# Altium footprint library gravpower.PcbLib: 27 footprints (part 1 of 2)
Each footprint in its own frame and in the unit in brackets; x right, y up, seen from the top. Pads: shape width x height; smd on the part's side, far side on the other; paste and mask are expansions set on the pad; w line width, h text height; cw(c..) or ccw(c..) is an arc to the next point about the centre after c.
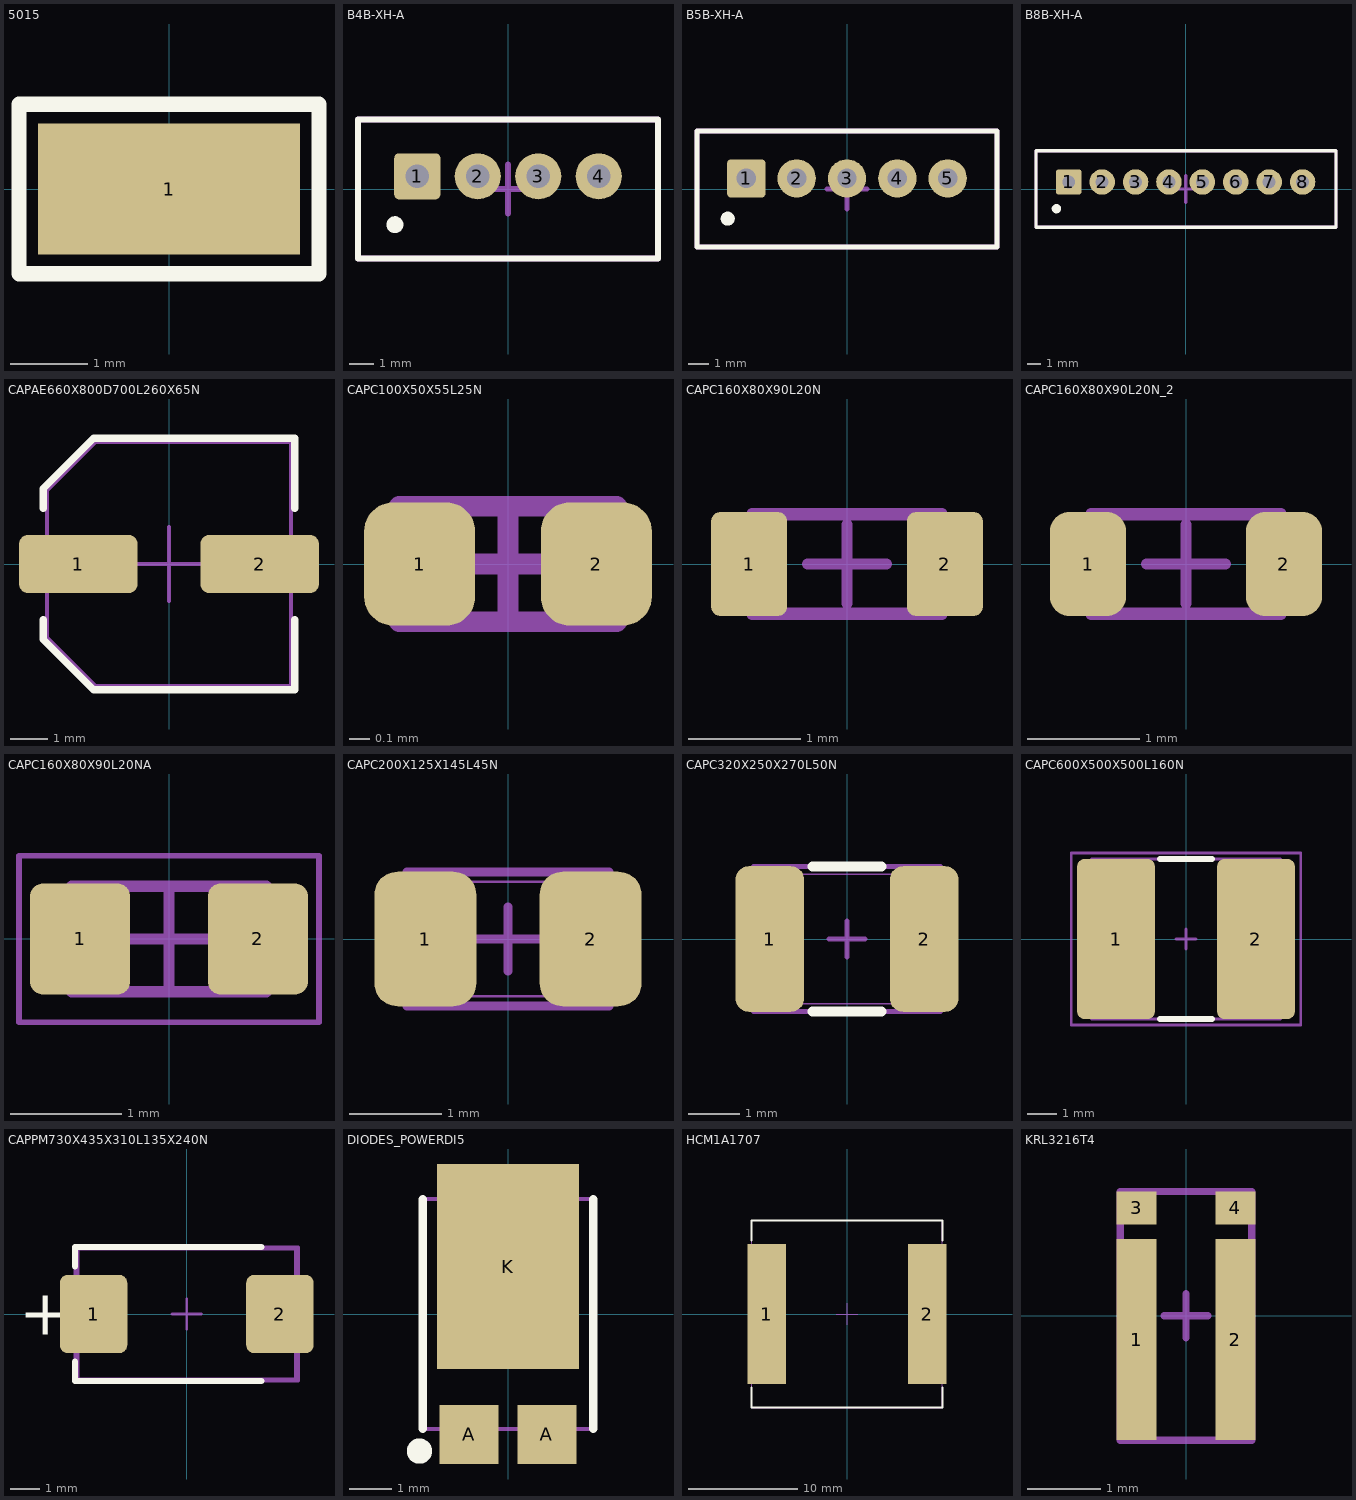
[diagram p0: the footprints below, top view; thin cyan lines are the x and y axes]

## 5015 [mm] "Test Point SMT"
height 1.52
pads (1):
  rect 3.4x1.7 smd paste+0 mask+0.05: 1(0,0)
Top Overlay:
  lines w0.2: -1.95,-1.1 -1.95,1.1 1.95,1.1 1.95,-1.1 -1.95,-1.1
3D body "User Library-Test point Keystone smt 5015.STEP": height 2, standoff 0, extent -1.451,-0.5 1.451,0.5

## B4B-XH-A [mm] "Through-hole shrouded header, 2.5mm pitch, 4-pos"
height 7
pads (4):
  rrect20% 1.905x1.905 / inner round 1.651 / far side rrect20% 1.905x1.905 hole 0.965: 1(-3.75,0.525)
  round 1.905 / inner round 1.651 / far side round 1.905 hole 0.965: 2(-1.25,0.525) 3(1.25,0.525) 4(3.75,0.525)
Top Overlay:
  circle w0.35: c-4.675,-1.475 r0.175
  lines w0.254: -6.2,-2.875 6.2,-2.875 6.2,2.875 -6.2,2.875 -6.2,-2.875
Bottom Overlay:
  circle w0.35: c-4.675,-1.475 r0.175
Mechanical 15:
  lines w0.254: -1,0 1,0 ; 0,-1 0,1 ; -6.2,-2.875 -6.2,2.875 6.2,2.875 6.2,-2.875 -6.2,-2.875
3D body "B4B-XH-A.STEP": height 7, standoff -3.4, extent -6.2,-2.825 6.2,2.925

## B5B-XH-A [mm] "Through-hole shrouded header, 2.5mm pitch, 5-pos"
height 7
pads (5):
  rrect20% 1.905x1.905 / inner round 1.651 / far side rrect20% 1.905x1.905 hole 0.965: 1(-5,0.525)
  round 1.905 / inner round 1.651 / far side round 1.905 hole 0.965: 2(-2.5,0.525) 3(0,0.525) 4(2.5,0.525) 5(5,0.525)
Top Overlay:
  circle w0.35: c-5.925,-1.475 r0.175
  lines w0.254: -7.45,-2.875 -7.45,2.875 7.45,2.875 7.45,-2.875 -7.45,-2.875
Bottom Overlay:
  circle w0.35: c-5.925,-1.475 r0.175
Mechanical 15:
  lines w0.254: -1,0 1,0 ; 0,-1 0,1 ; -7.45,-2.875 7.45,-2.875 7.45,2.875 -7.45,2.875 -7.45,-2.875
3D body "B5B-XH-A.STEP": height 7, standoff -3.4, extent -7.45,-2.85 7.45,2.9

## B8B-XH-A [mm] "Through-hole shrouded header, 2.5mm pitch, 8-pos"
height 7
pads (8):
  rrect20% 1.905x1.905 / inner round 1.651 / far side rrect20% 1.905x1.905 hole 0.965: 1(-8.75,0.525)
  round 1.905 / inner round 1.651 / far side round 1.905 hole 0.965: 2(-6.25,0.525) 3(-3.75,0.525) 4(-1.25,0.525) 5(1.25,0.525) 6(3.75,0.525) 7(6.25,0.525) 8(8.75,0.525)
Top Overlay:
  circle w0.35: c-9.675,-1.475 r0.175
  lines w0.254: -11.2,-2.875 11.25,-2.875 11.25,2.875 -11.2,2.875 -11.2,-2.875
Bottom Overlay:
  circle w0.35: c-9.675,-1.475 r0.175
Mechanical 15:
  lines w0.254: -1,0 1,0 ; 0,-1 0,1 ; -11.2,-2.875 -11.2,2.875 11.25,2.875 11.25,-2.875 -11.2,-2.875
3D body "B8B-XH-A.STEP": height 7, standoff -3.4, extent -11.15,-2.875 11.25,2.875

## CAPAE660X800D700L260X65N [mm] "Capacitor, Aluminum Electrolytic; 6.60 mm L X 6.60 mm W X 8.00 mm H body"
height 8
pads (2):
  rrect32% 3.21x1.58 smd: 1(-2.45,0) 2(2.45,0)
Top Overlay:
  lines w0.2: -3.4,-1.5 -3.4,-2.04 -2.04,-3.4 3.4,-3.4 3.4,-1.5 ; -3.4,1.5 -3.4,2.04 -2.04,3.4 3.4,3.4 3.4,1.5
Mechanical 15:
  lines w0.1: -1,0 1,0 ; 0,-1 0,1 ; -3.3,-1.98 -1.98,-3.3 3.3,-3.3 3.3,3.3 -1.98,3.3 -3.3,1.98 -3.3,-1.98
3D body "User Library-170336.step": height 8.54, standoff 0, extent -3.5,-3.3 3.5,3.3

## CAPC100X50X55L25N [mm] "Capacitor, Chip; 1.00 mm L X 0.50 mm W X 0.55 mm H body"
height 0.55
pads (2):
  rrect52% 0.54x0.6 smd: 1(-0.43,0) 2(0.43,0)
Mechanical 15:
  lines w0.1: -0.225,0 0.225,0 ; 0,-0.225 0,0.225 ; -0.53,-0.28 0.53,-0.28 0.53,0.28 -0.53,0.28 -0.53,-0.28
3D body "CAPC100X50X55L25.STEP": height 0.55, standoff 0, extent -0.5,-0.25 0.5,0.25

## CAPC160X80X90L20N [mm] "Capacitor, Chip; 1.60 mm L X 0.80 mm W X 0.90 mm H body"
height 0.9
pads (2):
  rrect25% 0.68x0.93 smd: 1(-0.875,0) 2(0.875,0)
Mechanical 1:
  lines w0.025: -0.8,-0.4 0.8,-0.4 ; -0.8,-0.4 -0.8,0.4 ; -0.8,-0.4 -0.8,0.4 ; -0.8,-0.4 -0.6,-0.4 -0.6,0.4 -0.8,0.4 ; -0.8,0.4 0.8,0.4 ; 0.8,-0.4 0.8,0.4 ; 0.8,-0.4 0.6,-0.4 0.6,0.4 0.8,0.4 ; 0.8,-0.4 0.8,0.4
Mechanical 15:
  lines w0.1: -0.35,0 0.35,0 ; 0,-0.35 0,0.35 ; -0.85,-0.45 0.85,-0.45 0.85,0.45 -0.85,0.45 -0.85,-0.45
3D body "CAPC160X80X90L20.STEP": height 0.9, standoff 0, extent -0.8,-0.4 0.8,0.4

## CAPC160X80X90L20N_2 [mm]
pads (2):
  rrect50% 0.68x0.93 smd: 1(-0.875,0) 2(0.875,0)
Mechanical 1:
  lines w0.025: -0.8,-0.4 -0.6,-0.4 -0.6,0.4 -0.8,0.4 ; -0.8,-0.4 -0.8,0.4 ; -0.8,-0.4 -0.8,0.4 ; -0.8,-0.4 0.8,-0.4 ; -0.8,0.4 0.8,0.4 ; 0.8,-0.4 0.8,0.4 ; 0.8,-0.4 0.6,-0.4 0.6,0.4 0.8,0.4 ; 0.8,-0.4 0.8,0.4
Mechanical 15:
  lines w0.1: -0.35,0 0.35,0 ; 0,-0.35 0,0.35 ; -0.85,-0.45 -0.85,0.45 0.85,0.45 0.85,-0.45 -0.85,-0.45
3D body "CAPC160X80X90L20.STEP": height 0.9, standoff 0, extent -0.8,-0.4 0.8,0.4

## CAPC160X80X90L20NA [mm] "Chip Capacitor, 2-Leads, Body 1.60x0.80mm, IPC Medium Density"
height 0.95
pads (2):
  rrect25% 0.9x1 smd: 1(-0.8,0) 2(0.8,0)
Mechanical 11:
  lines w0.05: -1.35,-0.75 1.35,-0.75 1.35,0.75 -1.35,0.75 -1.35,-0.75
  lines w0.1: -0.475,0 0.475,0 ; 0,-0.475 0,0.475
Mechanical 15:
  lines w0.1: -0.875,-0.475 0.875,-0.475 0.875,0.475 -0.875,0.475 -0.875,-0.475
3D body "CAPC1608X09N.step": height 0.95, standoff 0, extent -0.875,-0.475 0.875,0.475

## CAPC200X125X145L45N [mm] "Capacitor, Chip; 2.00 mm L X 1.25 mm W X 1.45 mm H body"
height 1.45
pads (2):
  rrect45% 1.11x1.47 smd: 1(-0.9,0) 2(0.9,0)
Mechanical 1:
  lines w0.025: -1,-0.625 -0.55,-0.625 -0.55,0.625 -1,0.625 ; -1,-0.625 -1,0.625 ; -1,-0.625 -1,0.625 ; -1,-0.625 1,-0.625 ; -1,0.625 1,0.625 ; 1,-0.625 1,0.625 ; 1,-0.625 0.55,-0.625 0.55,0.625 1,0.625 ; 1,-0.625 1,0.625
Mechanical 15:
  lines w0.1: -0.35,0 0.35,0 ; 0,-0.35 0,0.35 ; -1.1,-0.73 -1.1,0.73 1.1,0.73 1.1,-0.73 -1.1,-0.73
3D body "CAPC200X125X145L45.STEP": height 1.45, standoff 0, extent -1,-0.625 1,0.625

## CAPC320X250X270L50N [mm] "Capacitor, Chip; 3.20 mm L X 2.50 mm W X 2.70 mm H body"
height 2.7
pads (2):
  rrect38% 1.32x2.81 smd: 1(-1.49,0) 2(1.49,0)
Top Overlay:
  lines w0.2: -0.659,-1.4 0.659,-1.4 ; -0.659,1.4 0.659,1.4
Mechanical 1:
  lines w0.025: -1.6,-1.25 1.6,-1.25 ; -1.6,-1.25 -1.6,1.25 ; -1.6,-1.25 -1.6,1.25 ; -1.6,-1.25 -1.1,-1.25 -1.1,1.25 -1.6,1.25 ; -1.6,1.25 1.6,1.25 ; 1.6,-1.25 1.6,1.25 ; 1.6,-1.25 1.1,-1.25 1.1,1.25 1.6,1.25 ; 1.6,-1.25 1.6,1.25
Mechanical 15:
  lines w0.1: -0.35,0 0.35,0 ; 0,-0.35 0,0.35 ; -1.8,-1.4 1.8,-1.4 1.8,1.4 -1.8,1.4 -1.8,-1.4
3D body "CAPC320X250X270L50.STEP": height 2.7, standoff 0, extent -1.6,-1.25 1.6,1.25

## CAPC600X500X500L160N [mm] "Capacitor, Chip; 6.00 mm L X 5.00 mm W X 5.00 mm H body"
height 5
pads (2):
  rrect19% 2.68x5.51 smd: 1(-2.41,0) 2(2.41,0)
Top Overlay:
  lines w0.2: -0.89,-2.75 0.89,-2.75 ; -0.89,2.75 0.89,2.75
Mechanical 11:
  lines w0.1: -3.95,-2.955 3.95,-2.955 3.95,2.955 -3.95,2.955 -3.95,-2.955
Mechanical 15:
  lines w0.1: -0.35,0 0.35,0 ; 0,-0.35 0,0.35 ; -3.25,-2.75 3.25,-2.75 3.25,2.75 -3.25,2.75 -3.25,-2.75
3D body "CAPC600X500X500L160.STEP": height 5, standoff 0, extent -3,-2.5 3,2.5

## CAPPM730X435X310L135X240N [mm] "Capacitor, Polarized, Molded Body; 7.30 mm L X 4.35 mm W X 3.10 mm H body"
height 3.1
pads (2):
  rrect22% 2.26x2.62 smd mask+0.05: 1(-3.125,0) 2(3.125,0)
Top Overlay:
  lines w0.2: -3.75,-1.6 -3.75,-2.25 2.5,-2.25 ; -3.75,1.6 -3.75,2.25 2.5,2.25
  text "+" at -5.625,-0.7 h1.52
Mechanical 12:
  lines w0.025: -3.65,-1.2 -3.65,1.2 -2.3,1.2 -2.3,-1.2 -3.65,-1.2 ; 2.3,-1.2 3.65,-1.2 3.65,1.2 2.3,1.2 2.3,-1.2
Mechanical 14:
  lines w0.1: -3.75,-2.25 3.75,-2.25 3.75,2.25 -3.75,2.25 -3.75,-2.25
Mechanical 15:
  lines w0.1: -0.5,0 0.5,0 ; 0,-0.5 0,0.5 ; -3.65,-2.175 3.65,-2.175 3.65,2.175 -3.65,2.175 -3.65,-2.175
3D body "User Library-CaseD.step": height 2.9, standoff 0, extent -3.875,-2.15 3.874,2.15

## DIODES_POWERDI5 [mm] "Recifier; 2 pin, 4.05 mm L X 5.45 mm W X 1.15 mm H body"
height 1.15
pads (3):
  rect 1.4x1.39 smd mask+0.05: A(-0.92,-2.856) A(0.92,-2.856)
  rect 3.36x4.86 smd paste-4.86: K(0,1.126)
Top Overlay:
  circle w0.3: c-2.1,-3.25 r0.15
  lines w0.2: -2.025,-2.725 -2.025,2.725 ; 2.025,-2.725 2.025,2.725
Top Paste:
  region: -1.295,-0.919 -1.295,0.931 -0.195,0.931 -0.195,-0.919
  region: 0.195,-0.919 0.195,0.931 1.295,0.931 1.295,-0.919
  region: -1.295,1.321 -1.295,3.171 -0.195,3.171 -0.195,1.321
  region: 0.195,1.321 0.195,3.171 1.295,3.171 1.295,1.321
Mechanical 15:
  lines w0.1: -0.35,0 0.35,0 ; 0,-0.35 0,0.35 ; -2.025,-2.725 -2.025,2.725 2.025,2.725 2.025,-2.725 -2.025,-2.725
3D body "DIODES_POWERDI5.STEP": height 1.15, standoff 0, extent -2.025,-2.722 2.025,2.728

## HCM1A1707 [mm] "Inductor, Powdered Iron, SMD"
height 7
pads (2):
  rect 3.5x12.8 smd: 1(-7.35,0) 2(7.35,0)
Top Overlay:
  lines w0.2: -8.75,-6.75 -8.75,-8.575 8.75,-8.575 8.75,-6.75 ; -8.75,6.75 -8.75,8.575 8.75,8.575 8.75,6.75
Mechanical 15:
  lines w0.1: -1,0 1,0 ; 0,-1 0,1 ; -8.75,-8.575 8.75,-8.575 8.75,8.575 -8.75,8.575 -8.75,-8.575
3D body: height 7.05, standoff 0, extent -8.75,-8.575 8.75,8.575

## KRL3216T4 [mm] "4-Terminal Metal Foil Resistor"
height 0.5
pads (4):
  rect 0.55x2.75 smd mask+0.05: 1(-0.675,-0.325) 2(0.675,-0.325)
  rect 0.55x0.45 smd mask+0.05: 3(-0.675,1.475) 4(0.675,1.475)
Mechanical 15:
  lines w0.1: -0.3,0 0.3,0 ; 0,-0.3 0,0.3 ; -0.9,-1.7 0.9,-1.7 0.9,1.7 -0.9,1.7 -0.9,-1.7
3D body: height 0.5, standoff 0, extent -0.799,-1.599 0.799,1.599